# EAGLE library part AVRISP (library myFab)
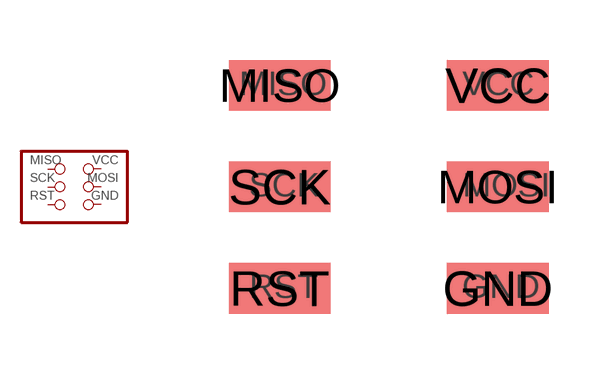
[diagram p10: symbol with the pads of AVRISP; footprint AVRISP]

Designator prefix -

## AVRISPSMD  [AVRISP]
GND  GND  pas
MISO  MISO  pas
MOSI  MOSI  pas
RST  RST  pas
SCK  SCK  pas
VCC  VCC  pas

## Footprint AVRISP (pad centres in mm)
smd 2.54 x 1.27: GND 2.92,-2.54; MISO -2.54,2.54; MOSI 2.92,0; RST -2.54,-2.54; SCK -2.54,0; VCC 2.92,2.54